# Altium footprint library PcbLib1.PcbLib: 24 footprints (part 2 of 2)
Each footprint in its own frame and in the unit in brackets; x right, y up, seen from the top. Pads: shape width x height; smd on the part's side, far side on the other; paste and mask are expansions set on the pad; w line width, h text height; cw(c..) or ccw(c..) is an arc to the next point about the centre after c.
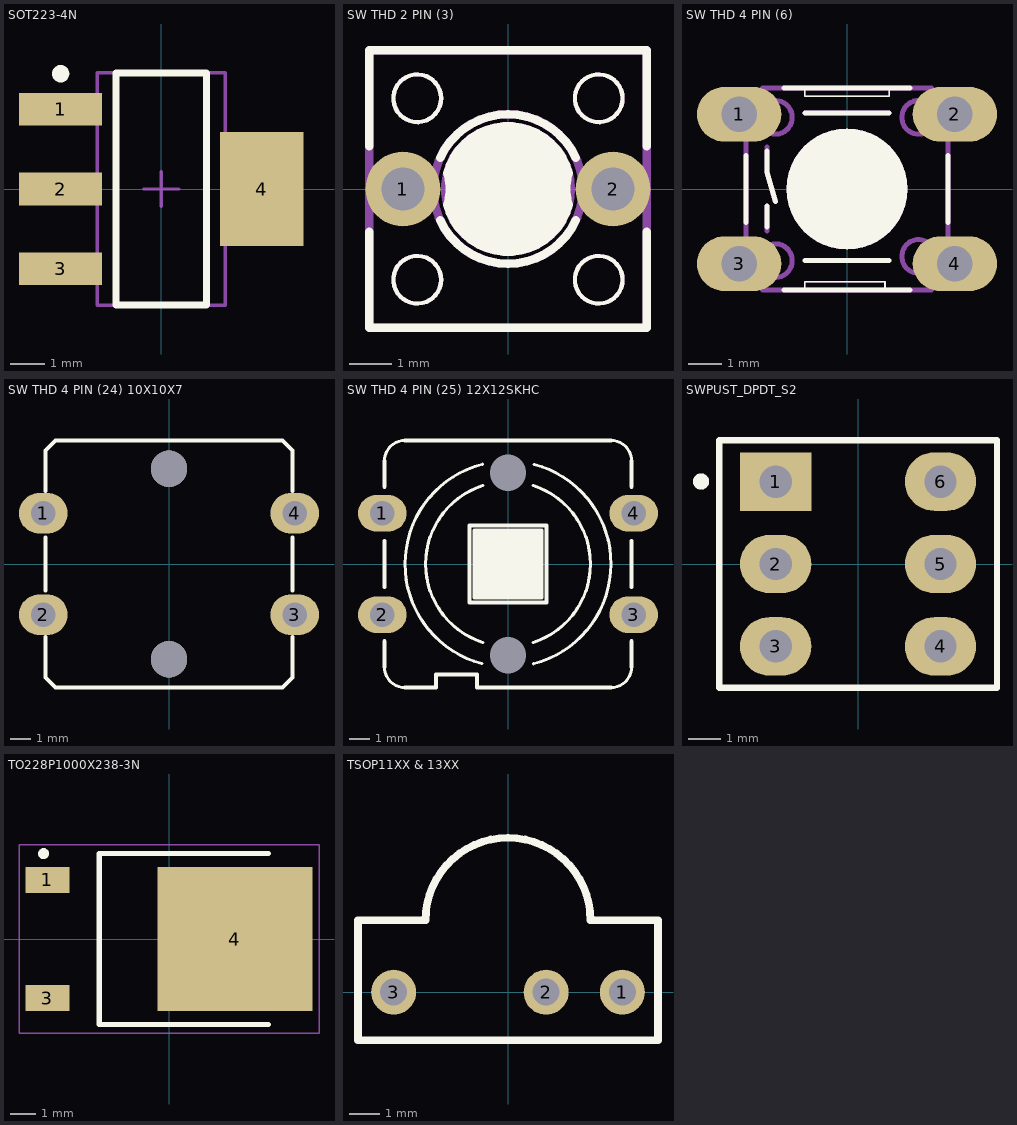
[diagram p1: the footprints below, top view; thin cyan lines are the x and y axes]

## SOT223-4N [mm] "SOT223, 4-Leads, Body 6.7x7.3mm (max), Pitch 2.30mm, IPC Medium Density"
height 1.8
pads (4):
  rect 2.4x0.95 smd: 1(-2.9,2.3) 2(-2.9,0) 3(-2.9,-2.3)
  rect 2.4x3.3 smd: 4(2.9,0)
Top Overlay:
  circle w0.25: c-2.9,3.325 r0.125
  lines w0.2: -1.3,-3.35 1.3,-3.35 1.3,3.35 -1.3,3.35 -1.3,-3.35
Mechanical 13:
  lines w0.1: -1.85,-3.35 1.85,-3.35 1.85,3.35 -1.85,3.35 -1.85,-3.35
Mechanical 15:
  lines w0.1: -0.5,0 0.5,0 ; 0,-0.5 0,0.5
3D body "SOT-223.STEP": height 0, standoff 0, extent 0.5,-0.25 0.5,-0.25
3D body "SOT-223.STEP": height 1.68, standoff 0, extent -3.48,-3.25 3.48,3.25

## SW THD 2 PIN (3) [mil] "Vertical 6.6 mm Square Type (Radial) SKQK Series ; Height 9.5 mm ; 200,000 cycles ; 0.98N Force"
height 374.02
pads (2):
  round 70 hole 40 mask-50: 1(-98.43,0) 2(98.43,0)
Top Overlay:
  circle w4: c-85,85 r22.36
  circle w4: c-85,-85 r22.36
  circle w4: c85,-85 r22.36
  circle w4: c85,85 r22.36
  region: -59.01,-14.75 -57.85,-11.17 -56.51,-3.76 -56.51,3.76 -57.85,11.17 -59.01,14.75 -57.37,21.3 -51.31,33.36 -42.75,43.79 -32.12,52.1 -19.92,57.87 -6.75,60.83 6.75,60.83 19.92,57.87 32.12,52.1 42.75,43.79 51.31,33.36 57.37,21.3 59.01,14.75 57.85,11.17 56.51,3.76 56.51,-3.76 57.85,-11.17 59.01,-14.75 57.37,-21.3 51.31,-33.36 42.75,-43.79 32.12,-52.1 19.92,-57.87 6.75,-60.83 -6.75,-60.83 -19.92,-57.87 -32.12,-52.1 -42.75,-43.79 -51.31,-33.36 -57.37,-21.3
  lines w4: -59.01,-14.75 ccw(c0,0) 59.01,-14.75 cw(c98.43,0) 59.01,14.75 ccw(c0,0) -59.01,14.75 cw(c-98.43,0) -59.01,-14.75
  lines w8: -130,-40 -129.91,-129.91 129.93,-129.91 130,-40 ; -130,40 -129.91,129.93 129.93,129.93 130,40 ; -63.56,-29.33 ccw(c0,0) 63.56,-29.33 ; -63.56,29.33 cw(c0,0) 63.56,29.33
Mechanical 3:
  circle w8: c0,0 r70
  circle w4: c0,0 r60.83
  circle w4: c-85,85 r22.36
  circle w4: c85,85 r22.36
  circle w4: c-85,-85 r22.36
  circle w4: c85,-85 r22.36
  region: 0,-60.83 -5.99,-60.83 -17.74,-58.49 -28.81,-53.9 -38.78,-47.25 -47.25,-38.78 -53.9,-28.81 -58.49,-17.74 -60.83,-5.99 -60.83,0 -60.83,5.99 -58.49,17.74 -53.9,28.81 -47.25,38.78 -38.78,47.25 -28.81,53.9 -17.74,58.49 -5.99,60.83 0,60.83 5.99,60.83 17.74,58.49 28.81,53.9 38.78,47.25 47.25,38.78 53.9,28.81 58.49,17.74 60.83,5.99 60.83,0 60.83,-5.99 58.49,-17.74 53.9,-28.81 47.25,-38.78 38.78,-47.25 28.81,-53.9 17.74,-58.49 5.99,-60.83
  lines w8: -129.91,-129.91 129.93,-129.91 129.93,129.93 -129.91,129.93 -129.91,-129.91
3D body "SKQKAJ.STEP": height 375.02, standoff -136.8, extent -129.91,-129.91 129.93,129.93

## SW THD 4 PIN (6) [mm] "Vertical 6.0mm Square Type (Snap-in) SKHH Series; 7.0 mm Height ; 1,000,000 cycles ; 0.98N Force"
height 7
pads (4):
  oval 2.54x1.651 hole 1.067: 1(-3.25,2.25) 2(3.25,2.25) 3(-3.25,-2.25) 4(3.25,-2.25)
Top Overlay:
  circle w0.152: c0,0 r1.75
  region: 0,-1.75 -0.172,-1.75 -0.51,-1.683 -0.829,-1.551 -1.116,-1.359 -1.359,-1.116 -1.551,-0.829 -1.683,-0.51 -1.75,-0.172 -1.75,0 -1.75,0.172 -1.683,0.51 -1.551,0.829 -1.359,1.116 -1.116,1.359 -0.829,1.551 -0.51,1.683 -0.172,1.75 0,1.75 0.172,1.75 0.51,1.683 0.829,1.551 1.116,1.359 1.359,1.116 1.551,0.829 1.683,0.51 1.75,0.172 1.75,0 1.75,-0.172 1.683,-0.51 1.551,-0.829 1.359,-1.116 1.116,-1.359 0.829,-1.551 0.51,-1.683 0.172,-1.75
  lines w0.051: -1.27,-3.048 -1.27,-2.794 1.143,-2.794 1.143,-3.048 ; -1.27,3.048 -1.27,2.794 1.27,2.794 1.27,3.048
  lines w0.152: -3.048,-1.016 -3.048,-0.762 -3.048,0.762 -3.048,1.016 ; -2.413,-1.143 -2.413,-0.508 ; -2.413,1.143 -2.413,0.508 -2.159,-0.381 ; -1.905,-3.048 -1.27,-3.048 1.143,-3.048 1.905,-3.048 ; -1.905,3.048 -1.27,3.048 1.27,3.048 1.905,3.048 ; -1.27,-2.159 1.27,-2.159 ; -1.27,2.286 1.27,2.286 ; 3.048,-1.016 3.048,-0.762 3.048,0.762 3.048,1.016
Mechanical 3:
  circle w0.152: c0,0 r1.75
  circle w0.152: c-2.159,2.159 r0.508
  circle w0.152: c2.159,2.159 r0.508
  circle w0.152: c2.159,-2.032 r0.508
  circle w0.152: c-2.159,-2.159 r0.508
  region: 0,-1.75 -0.172,-1.75 -0.511,-1.683 -0.829,-1.551 -1.116,-1.359 -1.359,-1.116 -1.551,-0.829 -1.683,-0.511 -1.75,-0.172 -1.75,0 -1.75,0.172 -1.683,0.51 -1.551,0.829 -1.359,1.115 -1.116,1.359 -0.829,1.551 -0.511,1.683 -0.172,1.75 0,1.75 0.172,1.75 0.51,1.683 0.829,1.551 1.115,1.359 1.359,1.115 1.551,0.829 1.683,0.51 1.75,0.172 1.75,0 1.75,-0.172 1.683,-0.511 1.551,-0.829 1.359,-1.116 1.115,-1.359 0.829,-1.551 0.51,-1.683 0.172,-1.75
  lines w0.051: -1.27,-3.048 -1.27,-2.794 1.143,-2.794 1.143,-3.048 ; -1.27,3.048 -1.27,2.794 1.27,2.794 1.27,3.048
  lines w0.152: -2.413,-1.27 -2.413,-0.508 ; -2.413,1.27 -2.413,0.508 -2.159,-0.381 ; -1.27,-2.159 1.27,-2.159 ; -1.27,2.286 1.27,2.286 ; -3.048,-2.54 -3.048,-1.016 -3.048,-0.762 -3.048,0.762 -3.048,1.016 -3.048,2.54 -2.54,3.048 -2.159,3.048 -1.27,3.048 1.27,3.048 2.159,3.048 2.54,3.048 3.048,2.54 3.048,1.016 3.048,0.762 3.048,-0.762 3.048,-1.016 3.048,-2.54 2.54,-3.048 2.159,-3.048 1.143,-3.048 -1.27,-3.048 -2.159,-3.048 -2.54,-3.048 -3.048,-2.54
3D body "SKHHBV.STEP": height 7.03, standoff -3.47, extent -3.95,-3.1 3.95,3.1

## SW THD 4 PIN (24) 10X10X7 [mm] "SWITCH, PUSHBUTTON, THD, SPDT,"
pads (6):
  oval 2.4x2 hole 1.2 mask+0.1: 1(-6.2,2.5) 2(-6.2,-2.5) 3(6.2,-2.5) 4(6.2,2.5)
  round 1.8 hole 1.8 unplated: ""(0,-4.7) ""(0,4.7)
Top Overlay:
  lines w0.2: -6.1,-3.6 -6.1,-5.6 -5.6,-6.1 5.6,-6.1 6.1,-5.6 6.1,-3.6 ; -6.1,-1.3 -6.1,1.3 ; -6.1,3.6 -6.1,5.6 -5.6,6.1 5.6,6.1 6.1,5.6 6.1,3.6 ; 6.1,-1.3 6.1,1.3
3D body "User Library-SWT9-1.STEP": height 7.3, standoff -3.5, extent -6.5,-6 6.5,6

## SW THD 4 PIN (25) 12X12SKHC [mm] "SWITCH, PUSHBUTTON, THD, SPDT, 12X12X7.3 mm ; 1,000,000 cycles ; 1.27N Force, SKHCBEA010"
height 7.3
pads (6):
  oval 2.4x1.8 hole 1.2 mask+0.1: 1(-6.2,2.5) 2(-6.2,-2.5) 3(6.2,-2.5) 4(6.2,2.5)
  round 0 hole 1.8 unplated mask+0.1: ""(0,-4.5) ""(0,4.5)
Top Overlay:
  region: -1.651,-1.651 -1.651,1.651 1.651,1.651 1.651,-1.651
  lines w0.152: -6.096,-5.08 ccw(c-5.08,-5.08) -5.08,-6.096 ; -6.096,5.08 cw(c-5.08,5.08) -5.08,6.096 ; -1.293,-4.913 cw(c0,0) -1.262,4.921 ; -1.248,-3.868 cw(c0,0) -1.248,3.868 ; 1.248,-3.868 ccw(c0,0) 1.248,3.868 ; 1.262,-4.921 ccw(c0,0) 1.293,4.913 ; 5.08,-6.096 ccw(c5.08,-5.08) 6.096,-5.08 ; 5.08,6.096 cw(c5.08,5.08) 6.096,5.08
  lines w0.2: -6.096,-5.08 -6.096,-3.81 ; -6.096,-1.143 -6.096,1.143 ; -6.096,3.81 -6.096,5.08 ; -5.08,-6.096 -3.556,-6.096 -3.556,-5.461 -1.524,-5.461 -1.524,-6.096 5.08,-6.096 ; -5.08,6.096 5.08,6.096 ; 6.096,-5.08 6.096,-3.81 ; 6.096,-1.143 6.096,1.143 ; 6.096,3.81 6.096,5.08 ; -1.905,-1.905 -1.905,1.905 1.905,1.905 1.905,-1.905 -1.905,-1.905 ; -1.651,-1.651 -1.651,1.651 1.651,1.651 1.651,-1.651 -1.651,-1.651
3D body "SKHCBJ.STEP": height 7.33, standoff -3.47, extent -7,-6 7,6

## SWPUST_DPDT_S2 [mm] "Switch, Push, DPDT, THD, Straight (www.Smartw.ir)"
pads (6):
  rect 2.2x1.8 hole 1: 1(-2.54,2.54)
  oval 2.2x1.8 hole 1: 2(-2.54,0) 3(-2.54,-2.54) 4(2.54,-2.54) 5(2.54,0) 6(2.54,2.54)
Top Overlay:
  circle w0.25: c-4.836,2.541 r0.125
  lines w0.2: -4.28,-3.81 4.28,-3.81 4.28,3.81 -4.28,3.81 -4.28,-3.81
3D body "SWITCH 6PIN.STEP": height 14, standoff -3, extent -3.55,-3.55 3.45,3.45

## TO228P1000X238-3N [mm]
pads (3):
  rect 1.7x1 smd: 1(-4.7,2.285) 3(-4.7,-2.285)
  rect 6x5.55 smd paste-4: 4(2.55,0)
Top Overlay:
  circle w0.2: c-4.85,3.3 r0.112
  lines w0.2: 3.85,-3.3 -2.7,-3.3 -2.7,3.3 3.85,3.3
Top Paste:
  region: 1.97,0.39 0.03,0.39 0.03,2.11 1.97,2.11
  region: 4.47,0.39 2.532,0.39 2.532,2.11 4.47,2.11
  region: 4.47,-2.114 2.534,-2.114 2.534,-0.39 4.47,-0.39
  region: 1.97,-2.11 0.03,-2.11 0.03,-0.39 1.97,-0.39
Mechanical 15:
  lines w0.05: -5.8,-3.65 5.8,-3.65 5.8,3.65 -5.8,3.65 -5.8,-3.65
3D body "PHD45N03LTA,118.STEP": height 2.38, standoff 0, extent -4.699,-3.3 5.301,3.3

## TSOP11XX & 13XX [mm] "(www.Smartw.ir)"
pads (3):
  round 1.5 hole 0.9: 1(3.81,0) 2(1.27,0) 3(-3.81,0)
Top Overlay:
  lines w0.127: 0,-1.6 0,-1.6
  lines w0.254: -5,-1.6 5,-1.6 5,2.4 2.75,2.4 ccw(c0,2.4) -2.75,2.4 -5,2.4 -5,-1.6
3D body "User Library-TSOP1133.STEP": height 14.25, standoff -16.35, extent -5,-1.6 5,5.15